# EAGLE library part BQ24133_RGY_24 (library BQ24133-UPDATED)
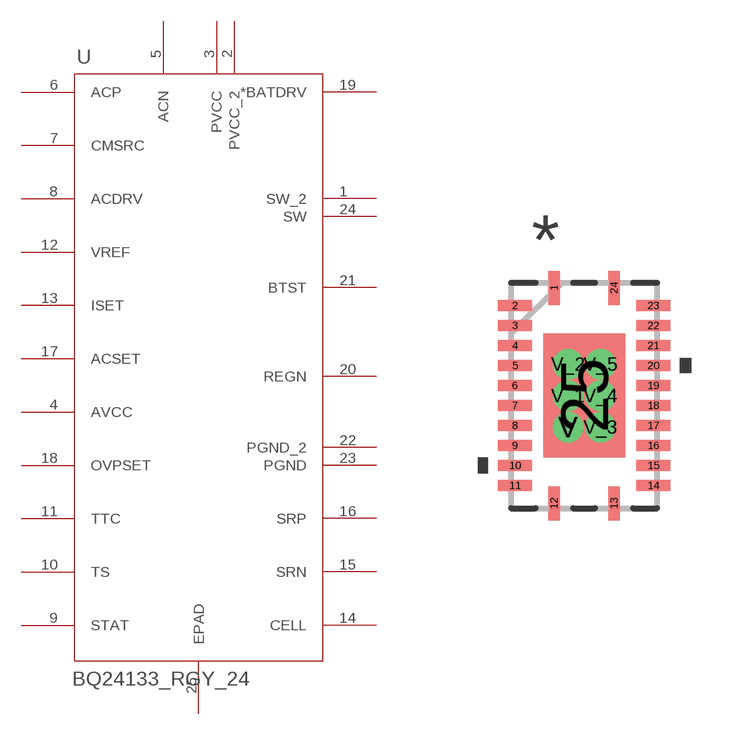
[diagram p0: symbol with the pads of RGY24_2P05X3P1; footprint RGY24_2P05X3P1]

Designator prefix U

## BQ24133_RGY_24 (DATASHEETURL: httpwww.ti.comlitgpnBQ24133; FAMILY_NAME: BATTERY CHARGE MANAGEMENT; GENERIC_PART_NUMBER: BQ24133; INDUSTRY_STD_PKG_TYPE: VQFN; MANUFACTURER: Texas Instruments; PACKAGE_DESIGNATOR: RGY; PIN_COUNT: 24)  [RGY24_2P05X3P1]
1  SW_2  pwr
2  PVCC_2  pwr
3  PVCC  pwr
4  AVCC  pwr
5  ACN  in
6  ACP
7  CMSRC  out
8  ACDRV  out
9  STAT  out
10  TS  in
11  TTC  in
12  VREF  pwr
13  ISET  in
14  CELL  in
15  SRN  in
16  SRP
17  ACSET  in
18  OVPSET  in
19  *BATDRV  out
20  REGN  pwr
21  BTST  pwr
22  PGND_2  pwr
23  PGND  pwr
24  SW  pwr
25  EPAD  pwr

## Footprint RGY24_2P05X3P1 (pad centres in mm)
smd 0.28 x 0.85: 1 -0.75,2.696; 12 -0.75,-2.696; 13 0.75,-2.696; 24 0.75,2.696
smd 0.85 x 0.28: 2 -1.731,2.25; 3 -1.731,1.75; 4 -1.731,1.25; 5 -1.731,0.75; 6 -1.731,0.25; 7 -1.731,-0.25; 8 -1.731,-0.75; 9 -1.731,-1.25; 10 -1.731,-1.75; 11 -1.731,-2.25; 14 1.731,-2.25; 15 1.731,-1.75; 16 1.731,-1.25; 17 1.731,-0.75; 18 1.731,-0.25; 19 1.731,0.25; 20 1.731,0.75; 21 1.731,1.25; 22 1.731,1.75; 23 1.731,2.25
smd 2.05 x 3.1: 25 0,0
drill 0.254 pad 0.508: V -0.406,-0.787; V_1 -0.406,0; V_2 -0.406,0.787; V_3 0.406,-0.787; V_4 0.406,0; V_5 0.406,0.787